# EAGLE library part 74HC4094N (library NXP_By_element14_Batch_1)
8-stage shift-and-store bus register
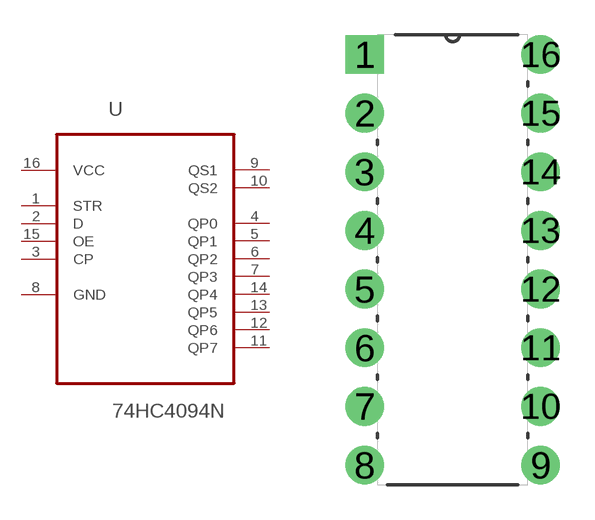
[diagram p128: symbol with the pads of DIP254P762X420-16; footprint DIP254P762X420-16]

Designator prefix U

## 74HC4094N (MPN: 74HC4094N; OC_FARNELL: 380970; OC_NEWARK: 07WX3748; P1I: o; PACKAGE: DIP-16; SUPPLIER: NXP)  [DIP254P762X420-16]
1  STR  in
2  D  in
3  CP  in
4  QP0  out
5  QP1  out
6  QP2  out
7  QP3  out
8  GND  pas
9  QS1  out
10  QS2  out
11  QP7  out
12  QP6  out
13  QP5  out
14  QP4  out
15  OE  in
16  VCC  pwr

## Footprint DIP254P762X420-16 (pad centres in mm)
drill 1.118 square: 1 -7.62,17.78
drill 1.118: 2 -7.62,15.24; 3 -7.62,12.7; 4 -7.62,10.16; 5 -7.62,7.62; 6 -7.62,5.08; 7 -7.62,2.54; 8 -7.62,0; 9 0,0; 10 0,2.54; 11 0,5.08; 12 0,7.62; 13 0,10.16; 14 0,12.7; 15 0,15.24; 16 0,17.78